# EAGLE library part PIC18F2520 (library GuShH)
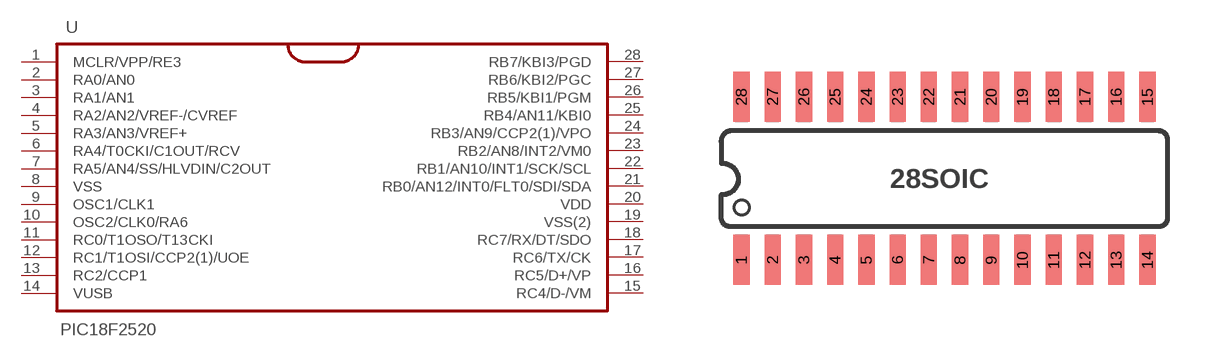
[diagram p2: symbol with the pads of 28-SOIC; footprint 28-SOIC]

Designator prefix -

## PIC18F2520  [28-SOIC]
1  MCLR/VPP/RE3
2  RA0/AN0
3  RA1/AN1
4  RA2/AN2/VREF-/CVREF
5  RA3/AN3/VREF+
6  RA4/T0CKI/C1OUT/RCV
7  RA5/AN4/SS/HLVDIN/C2OUT
8  VSS
9  OSC1/CLK1
10  OSC2/CLK0/RA6
11  RC0/T1OSO/T13CKI
12  RC1/T1OSI/CCP2(1)/UOE
13  RC2/CCP1
14  VUSB
15  RC4/D-/VM
16  RC5/D+/VP
17  RC6/TX/CK
18  RC7/RX/DT/SDO
19  VSS(2)
20  VDD
21  RB0/AN12/INT0/FLT0/SDI/SDA
22  RB1/AN10/INT1/SCK/SCL
23  RB2/AN8/INT2/VM0
24  RB3/AN9/CCP2(1)/VPO
25  RB4/AN11/KBI0
26  RB5/KBI1/PGM
27  RB6/KBI2/PGC
28  RB7/KBI3/PGD

## Footprint 28-SOIC (pad centres in mm)
smd 0.66 x 2.032: 1 -7.685,-3.285; 2 -6.415,-3.285; 3 -5.145,-3.285; 4 -3.875,-3.285; 5 -2.605,-3.285; 6 -1.335,-3.285; 7 -0.065,-3.285; 8 1.205,-3.285; 9 2.475,-3.285; 10 3.745,-3.285; 11 5.015,-3.285; 12 6.285,-3.285; 13 7.555,-3.285; 14 8.825,-3.285; 15 8.825,3.345; 16 7.555,3.345; 17 6.285,3.345; 18 5.015,3.345; 19 3.745,3.345; 20 2.475,3.345; 21 1.205,3.345; 22 -0.065,3.345; 23 -1.335,3.345; 24 -2.605,3.345; 25 -3.875,3.345; 26 -5.145,3.345; 27 -6.415,3.345; 28 -7.685,3.345